# Altium schematic symbol library Texas_Instruments_TPS61202DRCR.SchLib: 1 symbol
Pins are listed as number, name and electrical type; pins without a type are passive.

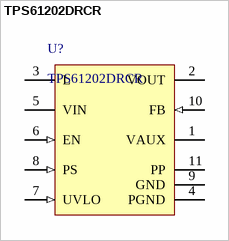
[diagram p0: symbol TPS61202DRCR]

## TPS61202DRCR
designator U?
Boost Voltage Converter with 0.3 to 5.5 V Input and 5 V Output, -40 to 85 degC, 10-Pin SON (DRC), Green (RoHS & no Sb/Br); Manufacturer: Texas Instruments; Vout(Min)(V): 5; Vin(Min)(V): 0.3; SubFamily: Step-Up Regulator; Vin(Max)(V): 5.5; Switching Frequency(Max)(kHz): 1250; Synchronous Rectification: TRUE; Regulated Outputs(#): 1; PackageReference: DRC10-2400X1650TP; Preset Vout(V): 5; Eco-Plan: Green (RoHS & no Sb/Br); PartNumber: TPS61202DRCR; ComponentLink1Description: Datasheet; ComponentLink2Description: Package Specification; DatasheetVersion: SLVS577B; ComponentLink1URL: http://www.ti.com/general/docs/lit/getliterature.tsp?genericPartNumber=TPS61202&fileType=pdf; ComponentLink2URL: http://www.ti.com/litv/pdf/mpds117k; Topology: Boost; PackageVersion: revL, Sep-2011; Vout(Max)(V): 5; Mounting Technology: Surface Mount; PackageDescription: 10-Pin Plastic Small Outline No-Lead, 3 x 3 x 1 mm Body, 0.5 mm Pitch, Exposed Pad
footprint DRC10-2400X1650TP
pins: 1 VAUX (power) "Supply voltage for control stage", 2 VOUT (power) "Boost converter output", 3 L (power) "Connection for Inductor", 4 PGND (power) "Power ground", 5 VIN (power) "Boost converter input voltage", 6 EN (in) "Enable input (1: enabled, 0: disabled).", 7 UVLO (in) "Undervoltage lockout comparator input, must be connected to VAUX if not used", 8 PS (in) "Enable/disable Power Save mode (1 : disabled, 0: enabled)", 9 GND (power) "Control / logic ground", 10 FB (in) "Voltage feedback of adjustable versions, must be connected to VOUT at fixed output voltage versions", 11 PP (power) "Must be soldered to achieve appropriate power dissipation. Should be connected to PGND."